# EAGLE library part PIC16F15345-I/SO (library BluJoy-e)
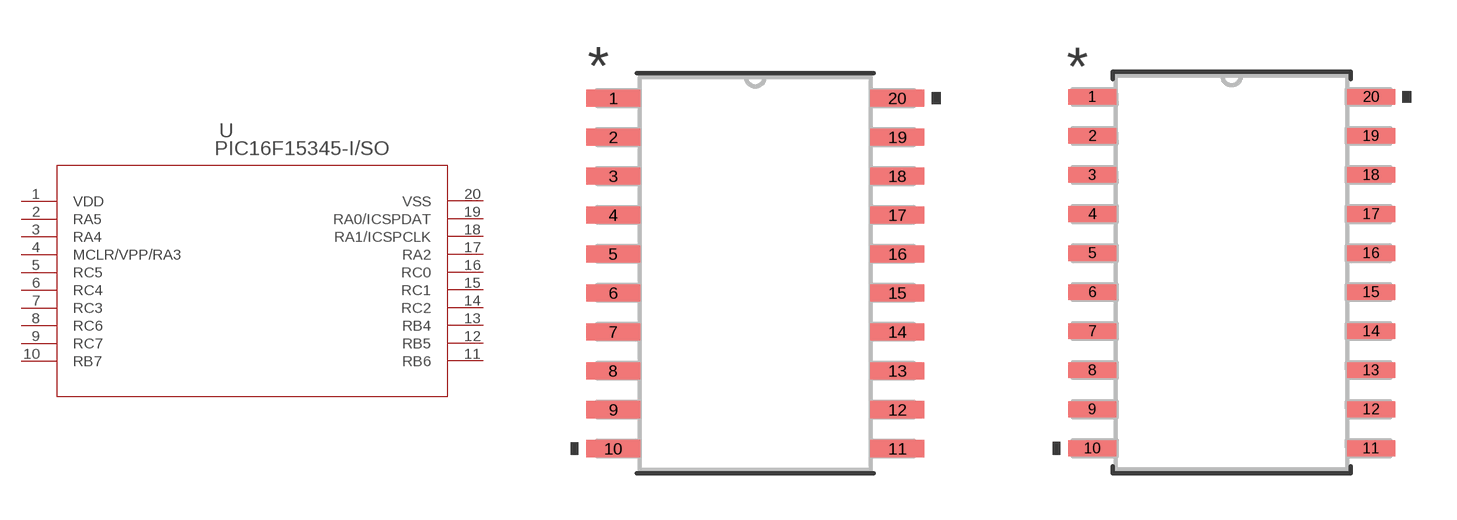
[diagram p1: symbol with the pads of SOIC20_SO_MCH; footprints SOIC20_SO_MCH, SOIC20_SO_MCH-L]

Designator prefix U

## PIC16F15345-I/SO (BUILT_BY: EMA_Cory; COPYRIGHT: Copyright (C) 2018 Accelerated Designs. All rights reserved; DATASHEET: http://ww1.microchip.com/downloads/en/DeviceDoc/PIC16-L-F15325-45-Data-Sheet-40001865D.pdf; MANUFACTURER_PART_NUMBER: PIC16F15345-I/SO; SOURCELIBRARY: Microchip_2020-03-04; VENDOR: Microchip)  [SOIC20_SO_MCH]
1  VDD  pwr
2  RA5
3  RA4
4  MCLR/VPP/RA3  pwr
5  RC5
6  RC4
7  RC3
8  RC6
9  RC7
10  RB7
11  RB6
12  RB5
13  RB4
14  RC2
15  RC1
16  RC0
17  RA2
18  RA1/ICSPCLK
19  RA0/ICSPDAT
20  VSS  pas

## PIC16F15345-I/SOSOIC20_SO_MCH-L (BUILT_BY: EMA_Cory; COPYRIGHT: Copyright (C) 2018 Accelerated Designs. All rights reserved; DATASHEET: http://ww1.microchip.com/downloads/en/DeviceDoc/PIC16-L-F15325-45-Data-Sheet-40001865D.pdf; MANUFACTURER_PART_NUMBER: PIC16F15345-I/SO; SOURCELIBRARY: Microchip_2020-03-04; VENDOR: Microchip)  [SOIC20_SO_MCH-L]
Pads as for SOIC20_SO_MCH

## PIC16F15345-I/SOSOIC20_SO_MCH-M (BUILT_BY: EMA_Cory; COPYRIGHT: Copyright (C) 2018 Accelerated Designs. All rights reserved; DATASHEET: http://ww1.microchip.com/downloads/en/DeviceDoc/PIC16-L-F15325-45-Data-Sheet-40001865D.pdf; MANUFACTURER_PART_NUMBER: PIC16F15345-I/SO; SOURCELIBRARY: Microchip_2020-03-04; VENDOR: Microchip)  [SOIC20_SO_MCH-M]
Pads as for SOIC20_SO_MCH

## Footprint SOIC20_SO_MCH (pad centres in mm)
smd 1.765 x 0.559: 1 -4.629,5.715; 2 -4.629,4.445; 3 -4.629,3.175; 4 -4.629,1.905; 5 -4.629,0.635; 6 -4.629,-0.635; 7 -4.629,-1.905; 8 -4.629,-3.175; 9 -4.629,-4.445; 10 -4.629,-5.715; 11 4.629,-5.715; 12 4.629,-4.445; 13 4.629,-3.175; 14 4.629,-1.905; 15 4.629,-0.635; 16 4.629,0.635; 17 4.629,1.905; 18 4.629,3.175; 19 4.629,4.445; 20 4.629,5.715

## Footprint SOIC20_SO_MCH-L (pad centres in mm)
smd 1.562 x 0.508: 1 -4.528,5.715; 2 -4.528,4.445; 3 -4.528,3.175; 4 -4.528,1.905; 5 -4.528,0.635; 6 -4.528,-0.635; 7 -4.528,-1.905; 8 -4.528,-3.175; 9 -4.528,-4.445; 10 -4.528,-5.715; 11 4.528,-5.715; 12 4.528,-4.445; 13 4.528,-3.175; 14 4.528,-1.905; 15 4.528,-0.635; 16 4.528,0.635; 17 4.528,1.905; 18 4.528,3.175; 19 4.528,4.445; 20 4.528,5.715

## Footprint SOIC20_SO_MCH-M (pad centres in mm)
smd 1.968 x 0.559: 1 -4.731,5.715; 2 -4.731,4.445; 3 -4.731,3.175; 4 -4.731,1.905; 5 -4.731,0.635; 6 -4.731,-0.635; 7 -4.731,-1.905; 8 -4.731,-3.175; 9 -4.731,-4.445; 10 -4.731,-5.715; 11 4.731,-5.715; 12 4.731,-4.445; 13 4.731,-3.175; 14 4.731,-1.905; 15 4.731,-0.635; 16 4.731,0.635; 17 4.731,1.905; 18 4.731,3.175; 19 4.731,4.445; 20 4.731,5.715